# EAGLE library part JACK6.35MM (library jack-eagle)
Jack plug 6.35mm
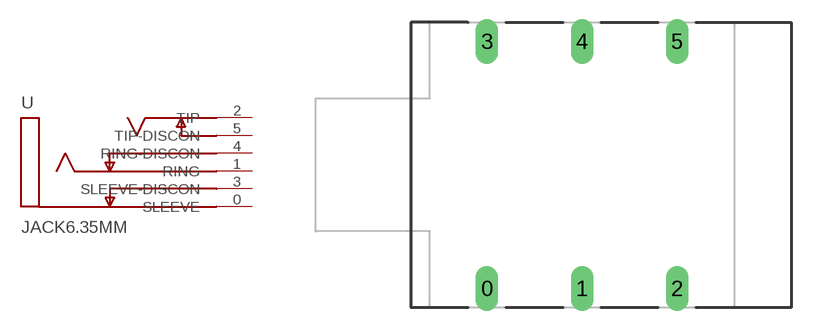
[diagram p0: symbol with the pads of JACK6.35MM; footprint JACK6.35MM]

Designator prefix -

## JACK6.35MM  [JACK6.35MM]
0  SLEEVE
1  RING
2  TIP
3  SLEEVE-DISCON
4  RING-DISCON
5  TIP-DISCON

## Footprint JACK6.35MM (pad centres in mm)
Jack plug 6.35mm
drill 1 long: 0 -6.35,-8.89; 1 0,-8.89; 2 6.35,-8.89; 3 -6.35,7.62; 4 0,7.62; 5 6.35,7.62